# Altium schematic symbol library Schematic_Library.SchLib: 16 symbols (part 3 of 3)
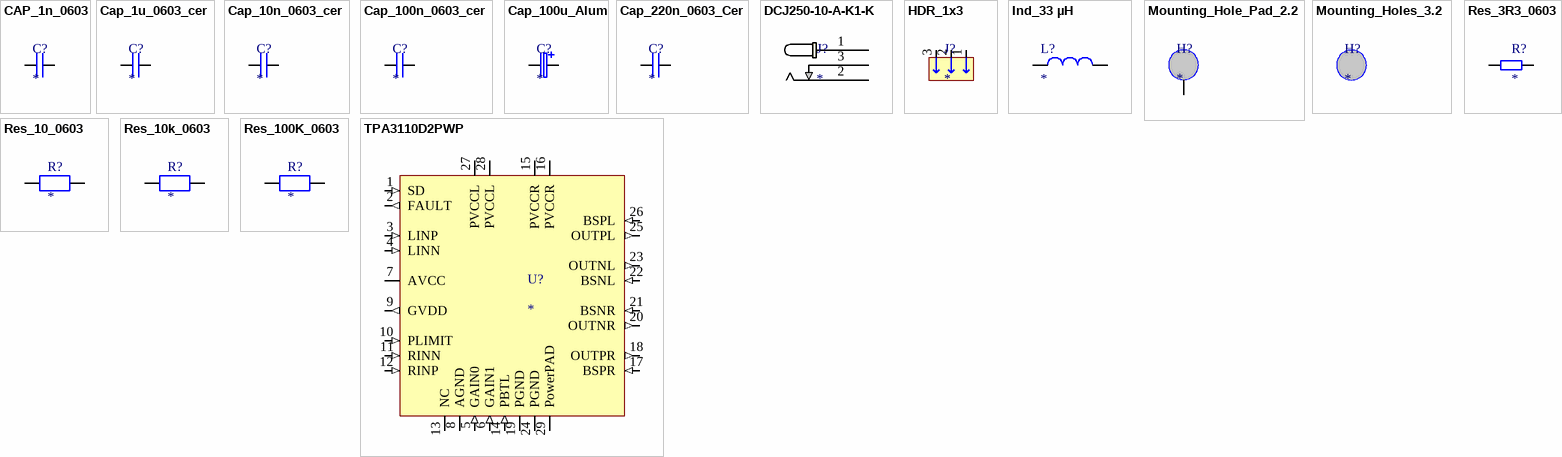
[diagram p2: symbols CAP_1n_0603 to TPA3110D2PWP]

## Res_100K_0603
designator R?
RES 100K OHM 1% 1/10W 0603; Manufacturer: Yageo Group; Manufacturer Part Number: RC0603FR-07100KL; Power Dissipation: 100mW; Value: 100kΩ; Temperature Coefficient: 100ppm/°C; Voltage Rating: 75V; Voltage Rating (DC): 50V; Supplier: Farnell; Supplier Part Number: 2421851; RoHS: Compliant; Category: Chip SMD Resistors; Stock: 615000; Case/Package: 0603; Case Code (Imperial): 0603; Case Code (Metric): 0603; China RoHS: Non-Compliant; Composition: Thick Film; Depth: 800µm; Height: 450µm; Lead Free: Lead Free; Length: 1.6mm; Lifecycle Status: Production; Max Operating Temperature: 155°C; Military Standard: Not; Min Operating Temperature: -55°C; Mounting Technology: Surface Mount; Pins: 2; Number of Terminals: 2; Number of Terminations: 2; Packaging: Tape & Reel; Power Rating: 100mW; REACH SVHC: Yes; Schedule B: 8533210045, 8533210045|8533210045, 8533210045|8533210045|8533210045, 8533210045|8533210045|8533210045|8533210045; Termination: SMD/SMT; Tolerance: 1%; Width: 800µm; Working Voltage: 75V; ComponentLink1URL: https://datasheet.octopart.com:443/RC0603FR-07100KL-Yageo-datasheet-175887523.pdf?src-supplier=IHS; ComponentLink1Description: https://datasheet.octopart.com:443/RC0603FR-07100KL-Yageo-datasheet-175887523.pdf?src-supplier=IHS; ComponentLink2URL: https://datasheet.octopart.com:443/RC0603FR-07100KL-Yageo-datasheet-8328172.pdf?src-supplier=element14+APAC; ComponentLink2Description: https://datasheet.octopart.com:443/RC0603FR-07100KL-Yageo-datasheet-8328172.pdf?src-supplier=element14+APAC; ComponentLink3URL: https://datasheet.octopart.com:443/RC0603FR-07100KL-Yageo-datasheet-17842380.pdf?src-supplier=element14+APAC; ComponentLink3Description: https://datasheet.octopart.com:443/RC0603FR-07100KL-Yageo-datasheet-17842380.pdf?src-supplier=element14+APAC; ComponentLink4URL: https://datasheet.octopart.com:443/RC0603FR-07100KL-Yageo-datasheet-141265859.pdf?src-supplier=Upverter; ComponentLink4Description: https://datasheet.octopart.com:443/RC0603FR-07100KL-Yageo-datasheet-141265859.pdf?src-supplier=Upverter; ComponentLink5URL: https://datasheet.octopart.com:443/RC0603FR-07100KL-Yageo-datasheet-103092701.pdf?src-supplier=Upverter; ComponentLink5Description: https://datasheet.octopart.com:443/RC0603FR-07100KL-Yageo-datasheet-103092701.pdf?src-supplier=Upverter; ComponentLink6URL: https://sigma.octopart.com:443/138820526/technical_drawing/Yageo-RC0603FR-07100KL.pdf?src-supplier=Upverter; ComponentLink6Description: https://sigma.octopart.com:443/138820526/technical_drawing/Yageo-RC0603FR-07100KL.pdf?src-supplier=Upverter; ComponentLink7URL: https://datasheet.octopart.com:443/RC0603FR-07100KL-Yageo-datasheet-98239111.pdf?src-supplier=Upverter; ComponentLink7Description: https://datasheet.octopart.com:443/RC0603FR-07100KL-Yageo-datasheet-98239111.pdf?src-supplier=Upverter; ComponentLink8URL: https://datasheet.octopart.com:443/RC0603FR-07100KL-Yageo-datasheet-12596169.pdf?src-supplier=Newark; ComponentLink8Description: https://datasheet.octopart.com:443/RC0603FR-07100KL-Yageo-datasheet-12596169.pdf?src-supplier=Newark; ComponentLink9URL: https://datasheet.octopart.com:443/RC0603FR-07100KL-Yageo-datasheet-34211833.pdf?src-supplier=Newark; ComponentLink9Description: https://datasheet.octopart.com:443/RC0603FR-07100KL-Yageo-datasheet-34211833.pdf?src-supplier=Newark; ComponentLink10URL: https://datasheet.octopart.com:443/RC0603FR-07100KL-Yageo-datasheet-62067350.pdf?src-supplier=Farnell; ComponentLink10Description: https://datasheet.octopart.com:443/RC0603FR-07100KL-Yageo-datasheet-62067350.pdf?src-supplier=Farnell; ComponentLink11URL: https://datasheet.octopart.com:443/RC0603FR-07100KL-Yageo-datasheet-13691069.pdf?src-supplier=Farnell; ComponentLink11Description: https://datasheet.octopart.com:443/RC0603FR-07100KL-Yageo-datasheet-13691069.pdf?src-supplier=Farnell; ComponentLink12URL: https://datasheet.octopart.com:443/RC0603FR-07100KL-Yageo-datasheet-164759695.pdf?src-supplier=Future+Electronics; ComponentLink12Description: https://datasheet.octopart.com:443/RC0603FR-07100KL-Yageo-datasheet-164759695.pdf?src-supplier=Future+Electronics; ComponentLink13URL: https://datasheet.octopart.com:443/RC0603FR-07100KL-Yageo-datasheet-137700087.pdf?src-supplier=Future+Electronics; ComponentLink13Description: https://datasheet.octopart.com:443/RC0603FR-07100KL-Yageo-datasheet-137700087.pdf?src-supplier=Future+Electronics; ComponentLink14URL: https://datasheet.octopart.com:443/RC0603FR-07100KL-Yageo-datasheet-27584510.pdf?src-supplier=Future+Electronics; ComponentLink14Description: https://datasheet.octopart.com:443/RC0603FR-07100KL-Yageo-datasheet-27584510.pdf?src-supplier=Future+Electronics; ComponentLink15URL: https://datasheet.octopart.com:443/RC0603FR-07100KL-Yageo-datasheet-15599030.pdf?src-supplier=Future+Electronics; ComponentLink15Description: https://datasheet.octopart.com:443/RC0603FR-07100KL-Yageo-datasheet-15599030.pdf?src-supplier=Future+Electronics; ComponentLink16URL: https://datasheet.octopart.com:443/RC0603FR-07100KL-Yageo-datasheet-8324193.pdf?src-supplier=Future+Electronics; ComponentLink16Description: https://datasheet.octopart.com:443/RC0603FR-07100KL-Yageo-datasheet-8324193.pdf?src-supplier=Future+Electronics; ComponentLink17URL: https://datasheet.octopart.com:443/RC0603FR-07100KL-Yageo-datasheet-79472498.pdf?src-supplier=Megastar; ComponentLink17Description: https://datasheet.octopart.com:443/RC0603FR-07100KL-Yageo-datasheet-79472498.pdf?src-supplier=Megastar; ComponentLink18URL: https://datasheet.octopart.com/RC0603FR-07100KL-Yageo-datasheet-73766026.pdf; ComponentLink18Description: https://datasheet.octopart.com/RC0603FR-07100KL-Yageo-datasheet-73766026.pdf; ComponentLink19URL: https://datasheet.octopart.com:443/RC0603FR-07100KL-Yageo-datasheet-30459151.pdf?src-supplier=Seeed+Studio; ComponentLink19Description: https://datasheet.octopart.com:443/RC0603FR-07100KL-Yageo-datasheet-30459151.pdf?src-supplier=Seeed+Studio; ComponentLink20URL: https://datasheet.octopart.com:443/RC0603FR-07100KL-Yageo-datasheet-118562.pdf?src-supplier=DigiKey; ComponentLink20Description: https://datasheet.octopart.com:443/RC0603FR-07100KL-Yageo-datasheet-118562.pdf?src-supplier=DigiKey; ComponentLink21URL: https://datasheet.octopart.com:443/RC0603FR-07100KL-Yageo-datasheet-503470.pdf?src-supplier=element14; ComponentLink21Description: https://datasheet.octopart.com:443/RC0603FR-07100KL-Yageo-datasheet-503470.pdf?src-supplier=element14; ComponentLink22URL: http://sigma.octopart.com:80/conflict_mineral_statement/Yageo-company-3.pdf?src-supplier=Compliance+Statements; ComponentLink22Description: http://sigma.octopart.com:80/conflict_mineral_statement/Yageo-company-3.pdf?src-supplier=Compliance+Statements; ComponentLink23URL: http://sigma.octopart.com:80/rohs_statement/Yageo-company-2.pdf?src-supplier=Compliance+Statements; ComponentLink23Description: http://sigma.octopart.com:80/rohs_statement/Yageo-company-2.pdf?src-supplier=Compliance+Statements
footprint Res_0603
pins: 1, 2

## TPA3110D2PWP
designator U?
Audio Amp Speaker 2-CH Stereo 15W Class-D 28-Pin HTSSOP EP Tube; Manufacturer: Texas Instruments; Manufacturer Part Number: TPA3110D2PWP; Manufacturer Lifecycle Status: ACTIVE; Gain: 36dB; Load Impedance: 4Ω; Max Power Dissipation: 4.48W; Max Supply Voltage: 26V; Min Supply Voltage: 8V; Nominal Supply Current: 32mA; Number of Channels: 2; Operating Supply Voltage: 15V; Supply Type: Single; Supplier: Arrow Electronics; Supplier Part Number: TPA3110D2PWP; RoHS: Compliant; Category: Amplifiers - Audio; Stock: 250; Pricing: 50=1,5401, 100=1,4378, 250=1,3687 (USD); Case/Package: HTSSOP EP; Contact Plating: Gold; Height: 1.2mm; Lead Free: Lead Free; Length: 9.7mm; Lifecycle Status: Production; Max Operating Temperature: 85°C; Max Output Power: 15W; Min Operating Temperature: -40°C; Pins: 28; Output Power: 15W; Power Dissipation: 4.48W; Radiation Hardening: No; REACH SVHC: No; Schedule B: 8542330000, 8542330000|8542330000|8542330000|8542330000|8542330000; Thickness: 1mm; Voltage Gain: 36dB; Width: 4.4mm; ComponentLink1URL: https://sigma.octopart.com:443/149651771/technical_drawing/Texas-Instruments-TPA3110D2PWP.pdf?src-supplier=Texas+Instruments; ComponentLink1Description: https://sigma.octopart.com:443/149651771/technical_drawing/Texas-Instruments-TPA3110D2PWP.pdf?src-supplier=Texas+Instruments; ComponentLink2URL: https://octopart.com:443/opatz8j6/c1?t=9VHQkCeyPoh3DPMAEO_DFo9LJb0sepxuhZqDcO3kNn-hr1I6CpSxn9kX-i7iwNW1QQ_FN3-6OiNrwOctxpZjiE5mK9kpTyXxb_K8QBkQ4FiC-fcvIhxPQqWrd8GZ9PALWuLWiXKfwAYsJ8ZGWNDJfECj5kWpDTYvS6oUPIgRtk3L4fHRzyDudR_Z5pmWaveG_BBIkZ83n_fZiEsPkwTBlDf9yGPm6kI-UHfL6X43OizeKqBVu1YbbkNF2nnE8vpO5NbVv8XYB0cGXcHluYXKMHSHWR7DfumS5WPtGaQJ0waGYKYvuduurNqcQleWD3Djxar4CBCeupFhl3JUWnQgj2JyMxpHzweSWShAO39dpy6sbNmcTfY9s9cWmFe3EZSCp8Jg4c5Xzw&src-supplier=Texas+Instruments; ComponentLink2Description: https://octopart.com:443/opatz8j6/c1?t=9VHQkCeyPoh3DPMAEO_DFo9LJb0sepxuhZqDcO3kNn-hr1I6CpSxn9kX-i7iwNW1QQ_FN3-6OiNrwOctxpZjiE5mK9kpTyXxb_K8QBkQ4FiC-fcvIhxPQqWrd8GZ9PALWuLWiXKfwAYsJ8ZGWNDJfECj5kWpDTYvS6oUPIgRtk3L4fHRzyDudR_Z5pmWaveG_BBIkZ83n_fZiEsPkwTBlDf9yGPm6kI-UHfL6X43OizeKqBVu1YbbkNF2nnE8vpO5NbVv8XYB0cGXcHluYXKMHSHWR7DfumS5WPtGaQJ0waGYKYvuduurNqcQleWD3Djxar4CBCeupFhl3JUWnQgj2JyMxpHzweSWShAO39dpy6sbNmcTfY9s9cWmFe3EZSCp8Jg4c5Xzw&src-supplier=Texas+Instruments; ComponentLink3URL: https://datasheet.octopart.com:443/TPA3110D2PWP-Texas-Instruments-datasheet-11515068.pdf?src-supplier=Texas+Instruments; ComponentLink3Description: https://datasheet.octopart.com:443/TPA3110D2PWP-Texas-Instruments-datasheet-11515068.pdf?src-supplier=Texas+Instruments; ComponentLink4URL: https://datasheet.octopart.com:443/TPA3110D2PWP-Texas-Instruments-datasheet-10288525.pdf?src-supplier=Texas+Instruments; ComponentLink4Description: https://datasheet.octopart.com:443/TPA3110D2PWP-Texas-Instruments-datasheet-10288525.pdf?src-supplier=Texas+Instruments; ComponentLink5URL: https://sigma.octopart.com:443/49250896/technical_drawing/Texas-Instruments-TPA3110D2PWP.pdf?src-supplier=Texas+Instruments; ComponentLink5Description: https://sigma.octopart.com:443/49250896/technical_drawing/Texas-Instruments-TPA3110D2PWP.pdf?src-supplier=Texas+Instruments; ComponentLink6URL: https://datasheet.octopart.com:443/TPA3110D2PWP-Texas-Instruments-datasheet-37738469.pdf?src-supplier=element14+APAC; ComponentLink6Description: https://datasheet.octopart.com:443/TPA3110D2PWP-Texas-Instruments-datasheet-37738469.pdf?src-supplier=element14+APAC; ComponentLink7URL: https://datasheet.octopart.com:443/TPA3110D2PWP-Texas-Instruments-datasheet-159117886.pdf?src-supplier=EBEE; ComponentLink7Description: https://datasheet.octopart.com:443/TPA3110D2PWP-Texas-Instruments-datasheet-159117886.pdf?src-supplier=EBEE; ComponentLink8URL: https://datasheet.octopart.com:443/TPA3110D2PWP-Texas-Instruments-datasheet-102499862.pdf?src-supplier=Newark; ComponentLink8Description: https://datasheet.octopart.com:443/TPA3110D2PWP-Texas-Instruments-datasheet-102499862.pdf?src-supplier=Newark; ComponentLink9URL: https://datasheet.octopart.com:443/TPA3110D2PWP-Texas-Instruments-datasheet-33012572.pdf?src-supplier=Newark; ComponentLink9Description: https://datasheet.octopart.com:443/TPA3110D2PWP-Texas-Instruments-datasheet-33012572.pdf?src-supplier=Newark; ComponentLink10URL: https://datasheet.octopart.com:443/TPA3110D2PWP-Texas-Instruments-datasheet-14135493.pdf?src-supplier=iiiC; ComponentLink10Description: https://datasheet.octopart.com:443/TPA3110D2PWP-Texas-Instruments-datasheet-14135493.pdf?src-supplier=iiiC; ComponentLink11URL: https://datasheet.octopart.com:443/TPA3110D2PWP-Texas-Instruments-datasheet-10979497.pdf?src-supplier=Farnell; ComponentLink11Description: https://datasheet.octopart.com:443/TPA3110D2PWP-Texas-Instruments-datasheet-10979497.pdf?src-supplier=Farnell; ComponentLink12URL: https://datasheet.octopart.com:443/TPA3110D2PWP-Texas-Instruments-datasheet-8360863.pdf?src-supplier=Farnell; ComponentLink12Description: https://datasheet.octopart.com:443/TPA3110D2PWP-Texas-Instruments-datasheet-8360863.pdf?src-supplier=Farnell; ComponentLink13URL: http://sigma.octopart.com:80/reach_statement/Texas-Instruments-company-64.pdf?src-supplier=Compliance+Statements; ComponentLink13Description: http://sigma.octopart.com:80/reach_statement/Texas-Instruments-company-64.pdf?src-supplier=Compliance+Statements; ComponentLink14URL: http://sigma.octopart.com:80/conflict_mineral_statement/Texas-Instruments-company-63.pdf?src-supplier=Compliance+Statements; ComponentLink14Description: http://sigma.octopart.com:80/conflict_mineral_statement/Texas-Instruments-company-63.pdf?src-supplier=Compliance+Statements
footprint TPA3110D2_15_W
pins: 1 SD (in), 2 FAULT (out), 3 LINP (in), 4 LINN (in), 5 GAIN0 (in), 6 GAIN1 (in), 7 AVCC (power), 8 AGND, 9 GVDD (out), 10 PLIMIT (in), 11 RINN (in), 12 RINP (in), 13 NC, 14 PBTL (in), 15 PVCCR (power), 16 PVCCR (power), 17 BSPR (in), 18 OUTPR (out), 19 PGND, 20 OUTNR (out), 21 BSNR (in), 22 BSNL (in), 23 OUTNL (out), 24 PGND, 25 OUTPL (out), 26 BSPL (in), 27 PVCCL (power), 28 PVCCL (power), 29 PowerPAD (power)